# Altium footprint library CC0402MRX5R6BB106.PcbLib: 3 footprints
Each footprint in its own frame and in the unit in brackets; x right, y up, seen from the top. Pads: shape width x height; smd on the part's side, far side on the other; paste and mask are expansions set on the pad; w line width, h text height; cw(c..) or ccw(c..) is an arc to the next point about the centre after c.
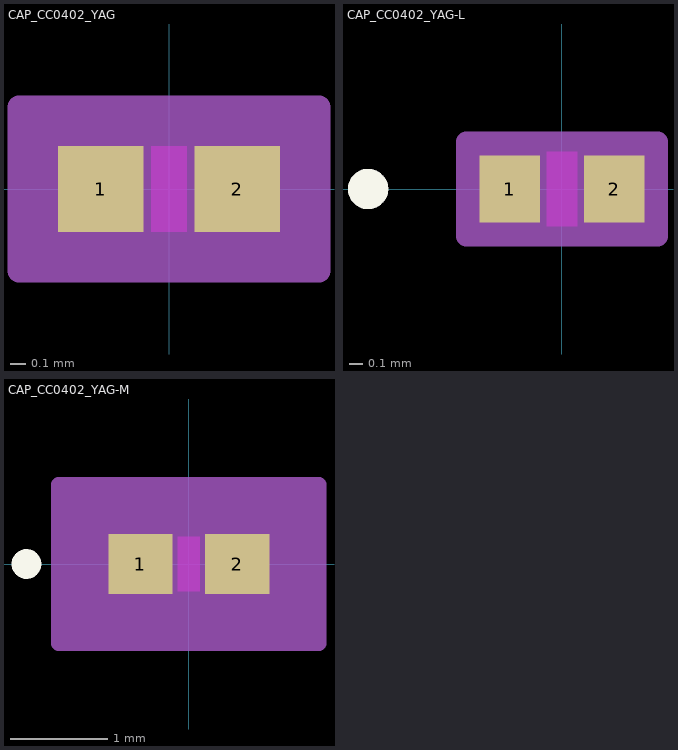
[diagram p0: the footprints below, top view; thin cyan lines are the x and y axes]

## CAP_CC0402_YAG [mil]
pads (2):
  rect 22x22 smd paste+0 mask+0: 1(-17.5,0) 2(17.5,0)
Top Layer keep-out:
  region: -4.5,-9 -4.5,9 4.5,9 4.5,-9
Keep-Out Layer:
  region: -4.5,-11 -4.5,11 4.5,11 4.5,-11
Mechanical 13:
  circle w0: c-12.5,0 r0
  lines w1: -20.5,-11 -20.5,11 ; -20.5,-11 -6.5,-11 -6.5,11 -20.5,11 ; -20.5,-11 20.5,-11 ; -20.5,-11 -20.5,11 ; -20.5,11 20.5,11 ; 20.5,-11 6.5,-11 6.5,11 20.5,11 ; 20.5,-11 20.5,11 ; 20.5,-11 20.5,11
Mechanical 15:
  region: 38.5,-21 -38.5,-21 -38.5,21 38.5,21
  lines w6: -38.5,-21 -38.5,21 38.5,21 38.5,-21 -38.5,-21
3D body "CAP_CC0402_YAG.step": height 22.01, standoff 0, extent -20.51,-10.98 20.51,10.98

## CAP_CC0402_YAG-L [mil]
pads (2):
  rect 18x20 smd paste+0 mask+0: 1(-15.5,0) 2(15.5,0)
Top Layer keep-out:
  region: -4.5,-9 -4.5,9 4.5,9 4.5,-9
Top Overlay:
  circle w6: c-57.5,0 r3
Keep-Out Layer:
  region: -4.5,-11 -4.5,11 4.5,11 4.5,-11
Mechanical 13:
  circle w0: c-10.5,0 r3
  lines w1: -20.5,-11 -20.5,11 ; -20.5,-11 -6.5,-11 -6.5,11 -20.5,11 ; -20.5,-11 20.5,-11 ; -20.5,-11 -20.5,11 ; -20.5,11 20.5,11 ; 20.5,-11 6.5,-11 6.5,11 20.5,11 ; 20.5,-11 20.5,11 ; 20.5,-11 20.5,11
Mechanical 15:
  region: 28.5,-14 -28.5,-14 -28.5,14 28.5,14
  lines w6: -28.5,-14 -28.5,14 28.5,14 28.5,-14 -28.5,-14
3D body "CAP_CC0402_YAG.step": height 22.01, standoff 0, extent -20.51,-10.98 20.51,10.98

## CAP_CC0402_YAG-M [mil]
pads (2):
  rect 26x24 smd paste+0 mask+0: 1(-19.5,0) 2(19.5,0)
Top Layer keep-out:
  region: -4.5,-9 -4.5,9 4.5,9 4.5,-9
Top Overlay:
  circle w6: c-65.5,0 r3
Keep-Out Layer:
  region: -4.5,-11 -4.5,11 4.5,11 4.5,-11
Mechanical 13:
  circle w0: c-14.5,0 r3
  lines w1: -20.5,-11 -20.5,11 ; -20.5,-11 -6.5,-11 -6.5,11 -20.5,11 ; -20.5,-11 20.5,-11 ; -20.5,-11 -20.5,11 ; -20.5,11 20.5,11 ; 20.5,-11 6.5,-11 6.5,11 20.5,11 ; 20.5,-11 20.5,11 ; 20.5,-11 20.5,11
Mechanical 15:
  region: 52.5,-32 -52.5,-32 -52.5,32 52.5,32
  lines w6: -52.5,-32 -52.5,32 52.5,32 52.5,-32 -52.5,-32
3D body "CAP_CC0402_YAG.step": height 22.01, standoff 0, extent -20.51,-10.98 20.51,10.98